# EAGLE library part DIO64 (library Fitch_Eagle_Library)
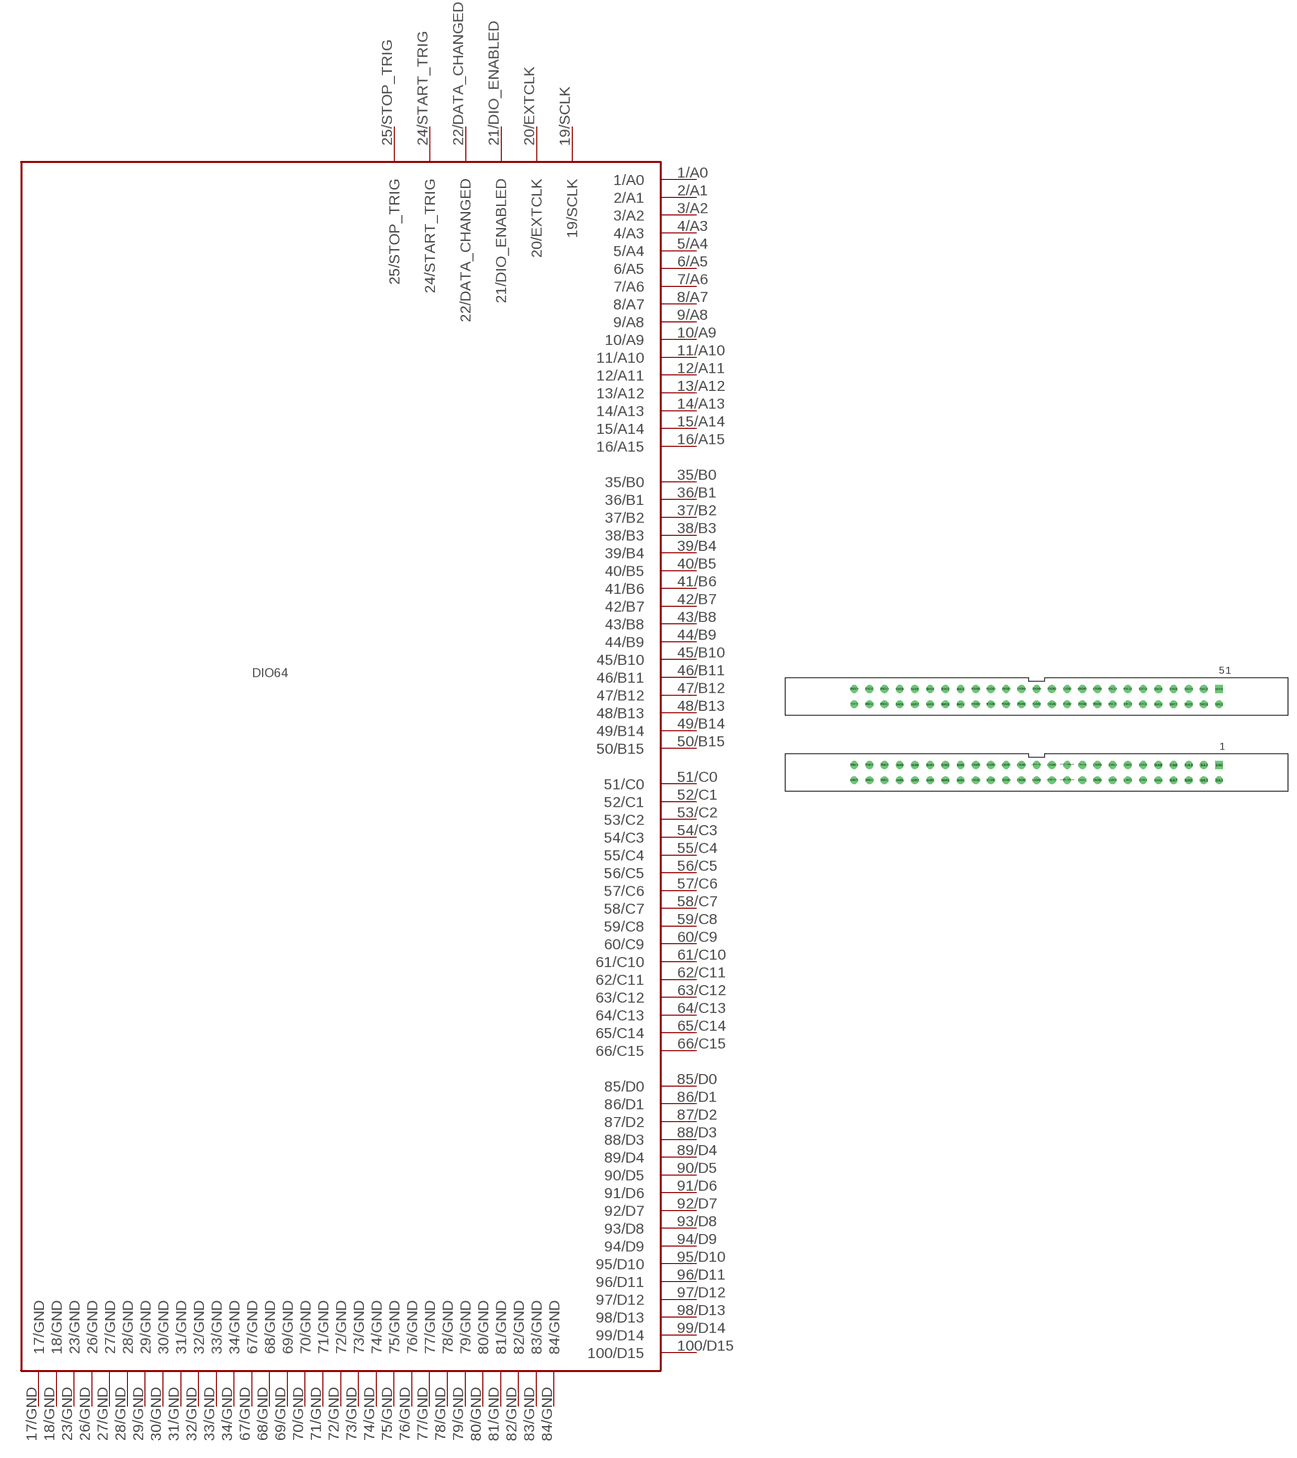
[diagram p11: symbol with the pads of DIO64; footprint DIO64]

Designator prefix -

## DIO64  [DIO64]
1/A0  1/A0
2/A1  2/A1
3/A2  3/A2
4/A3  4/A3
5/A4  5/A4
6/A5  6/A5
7/A6  7/A6
8/A7  8/A7
9/A8  9/A8
10/A9  10/A9
11/A10  11/A10
12/A11  12/A11
13/A12  13/A12
14/A13  14/A13
15/A14  15/A14
16/A15  16/A15
17/GND  17/GND
18/GND  18/GND
19/SCLK  19/SCLK
20/EXTCLK  20/EXTCLK
21/DIO_ENABLED  21/DIO_ENABLED
22/DATA_CHANGED  22/DATA_CHANGED
23/GND  23/GND
24/START_TRIG  24/START_TRIG
25/STOP_TRIG  25/STOP_TRIG
26/GND  26/GND
27/GND  27/GND
28/GND  28/GND
29/GND  29/GND
30/GND  30/GND
31/GND  31/GND
32/GND  32/GND
33/GND  33/GND
34/GND  34/GND
35/B0  35/B0
36/B1  36/B1
37/B2  37/B2
38/B3  38/B3
39/B4  39/B4
40/B5  40/B5
41/B6  41/B6
42/B7  42/B7
43/B8  43/B8
44/B9  44/B9
45/B10  45/B10
46/B11  46/B11
47/B12  47/B12
48/B13  48/B13
49/B14  49/B14
50/B15  50/B15
51/C0  51/C0
52/C1  52/C1
53/C2  53/C2
54/C3  54/C3
55/C4  55/C4
56/C5  56/C5
57/C6  57/C6
58/C7  58/C7
59/C8  59/C8
60/C9  60/C9
61/C10  61/C10
62/C11  62/C11
63/C12  63/C12
64/C13  64/C13
65/C14  65/C14
66/C15  66/C15
67/GND  67/GND
68/GND  68/GND
69/GND  69/GND
70/GND  70/GND
71/GND  71/GND
72/GND  72/GND
73/GND  73/GND
74/GND  74/GND
75/GND  75/GND
76/GND  76/GND
77/GND  77/GND
78/GND  78/GND
79/GND  79/GND
80/GND  80/GND
81/GND  81/GND
82/GND  82/GND
83/GND  83/GND
84/GND  84/GND
85/D0  85/D0
86/D1  86/D1
87/D2  87/D2
88/D3  88/D3
89/D4  89/D4
90/D5  90/D5
91/D6  91/D6
92/D7  92/D7
93/D8  93/D8
94/D9  94/D9
95/D10  95/D10
96/D11  96/D11
97/D12  97/D12
98/D13  98/D13
99/D14  99/D14
100/D15  100/D15

## Footprint DIO64 (pad centres in mm)
drill 0.8 pad 1.27 square: 1/A0 30.48,1.27; 51/C0 30.48,13.97
drill 0.8 pad 1.27: 2/A1 30.48,-1.27; 3/A2 27.94,1.27; 4/A3 27.94,-1.27; 5/A4 25.4,1.27; 6/A5 25.4,-1.27; 7/A6 22.86,1.27; 8/A7 22.86,-1.27; 9/A8 20.32,1.27; 10/A9 20.32,-1.27; 11/A10 17.78,1.27; 12/A11 17.78,-1.27; 13/A12 15.24,1.27; 14/A13 15.24,-1.27; 15/A14 12.7,1.27; 16/A15 12.7,-1.27; 17/GND 10.16,1.27; 18/GND 10.16,-1.27; 19/SCLK 7.62,1.27; 20/EXTCLK 7.62,-1.27; 21/DIO_ENABLED 5.08,1.27; 22/DATA_CHANGED 5.08,-1.27; 23/GND 2.54,1.27; 24/START_TRIG 2.54,-1.27; 25/STOP_TRIG 0,1.27; 26/GND 0,-1.27; 27/GND -2.54,1.27; 28/GND -2.54,-1.27; 29/GND -5.08,1.27; 30/GND -5.08,-1.27; 31/GND -7.62,1.27; 32/GND -7.62,-1.27; 33/GND -10.16,1.27; 34/GND -10.16,-1.27; 35/B0 -12.7,1.27; 36/B1 -12.7,-1.27; 37/B2 -15.24,1.27; 38/B3 -15.24,-1.27; 39/B4 -17.78,1.27; 40/B5 -17.78,-1.27; 41/B6 -20.32,1.27; 42/B7 -20.32,-1.27; 43/B8 -22.86,1.27; 44/B9 -22.86,-1.27; 45/B10 -25.4,1.27; 46/B11 -25.4,-1.27; 47/B12 -27.94,1.27; 48/B13 -27.94,-1.27; 49/B14 -30.48,1.27; 50/B15 -30.48,-1.27; 52/C1 30.48,11.43; 53/C2 27.94,13.97; 54/C3 27.94,11.43; 55/C4 25.4,13.97; 56/C5 25.4,11.43; 57/C6 22.86,13.97; 58/C7 22.86,11.43; 59/C8 20.32,13.97; 60/C9 20.32,11.43; 61/C10 17.78,13.97; 62/C11 17.78,11.43; 63/C12 15.24,13.97; 64/C13 15.24,11.43; 65/C14 12.7,13.97; 66/C15 12.7,11.43; 67/GND 10.16,13.97; 68/GND 10.16,11.43; 69/GND 7.62,13.97; 70/GND 7.62,11.43; 71/GND 5.08,13.97; 72/GND 5.08,11.43; 73/GND 2.54,13.97; 74/GND 2.54,11.43; 75/GND 0,13.97; 76/GND 0,11.43; 77/GND -2.54,13.97; 78/GND -2.54,11.43; 79/GND -5.08,13.97; 80/GND -5.08,11.43; 81/GND -7.62,13.97; 82/GND -7.62,11.43; 83/GND -10.16,13.97; 84/GND -10.16,11.43; 85/D0 -12.7,13.97; 86/D1 -12.7,11.43; 87/D2 -15.24,13.97; 88/D3 -15.24,11.43; 89/D4 -17.78,13.97; 90/D5 -17.78,11.43; 91/D6 -20.32,13.97; 92/D7 -20.32,11.43; 93/D8 -22.86,13.97; 94/D9 -22.86,11.43; 95/D10 -25.4,13.97; 96/D11 -25.4,11.43; 97/D12 -27.94,13.97; 98/D13 -27.94,11.43; 99/D14 -30.48,13.97; 100/D15 -30.48,11.43